# Altium integrated library Analog Devices Interface and Isolation Digital Isolators.IntLib: 645 symbols (part 23 of 36)
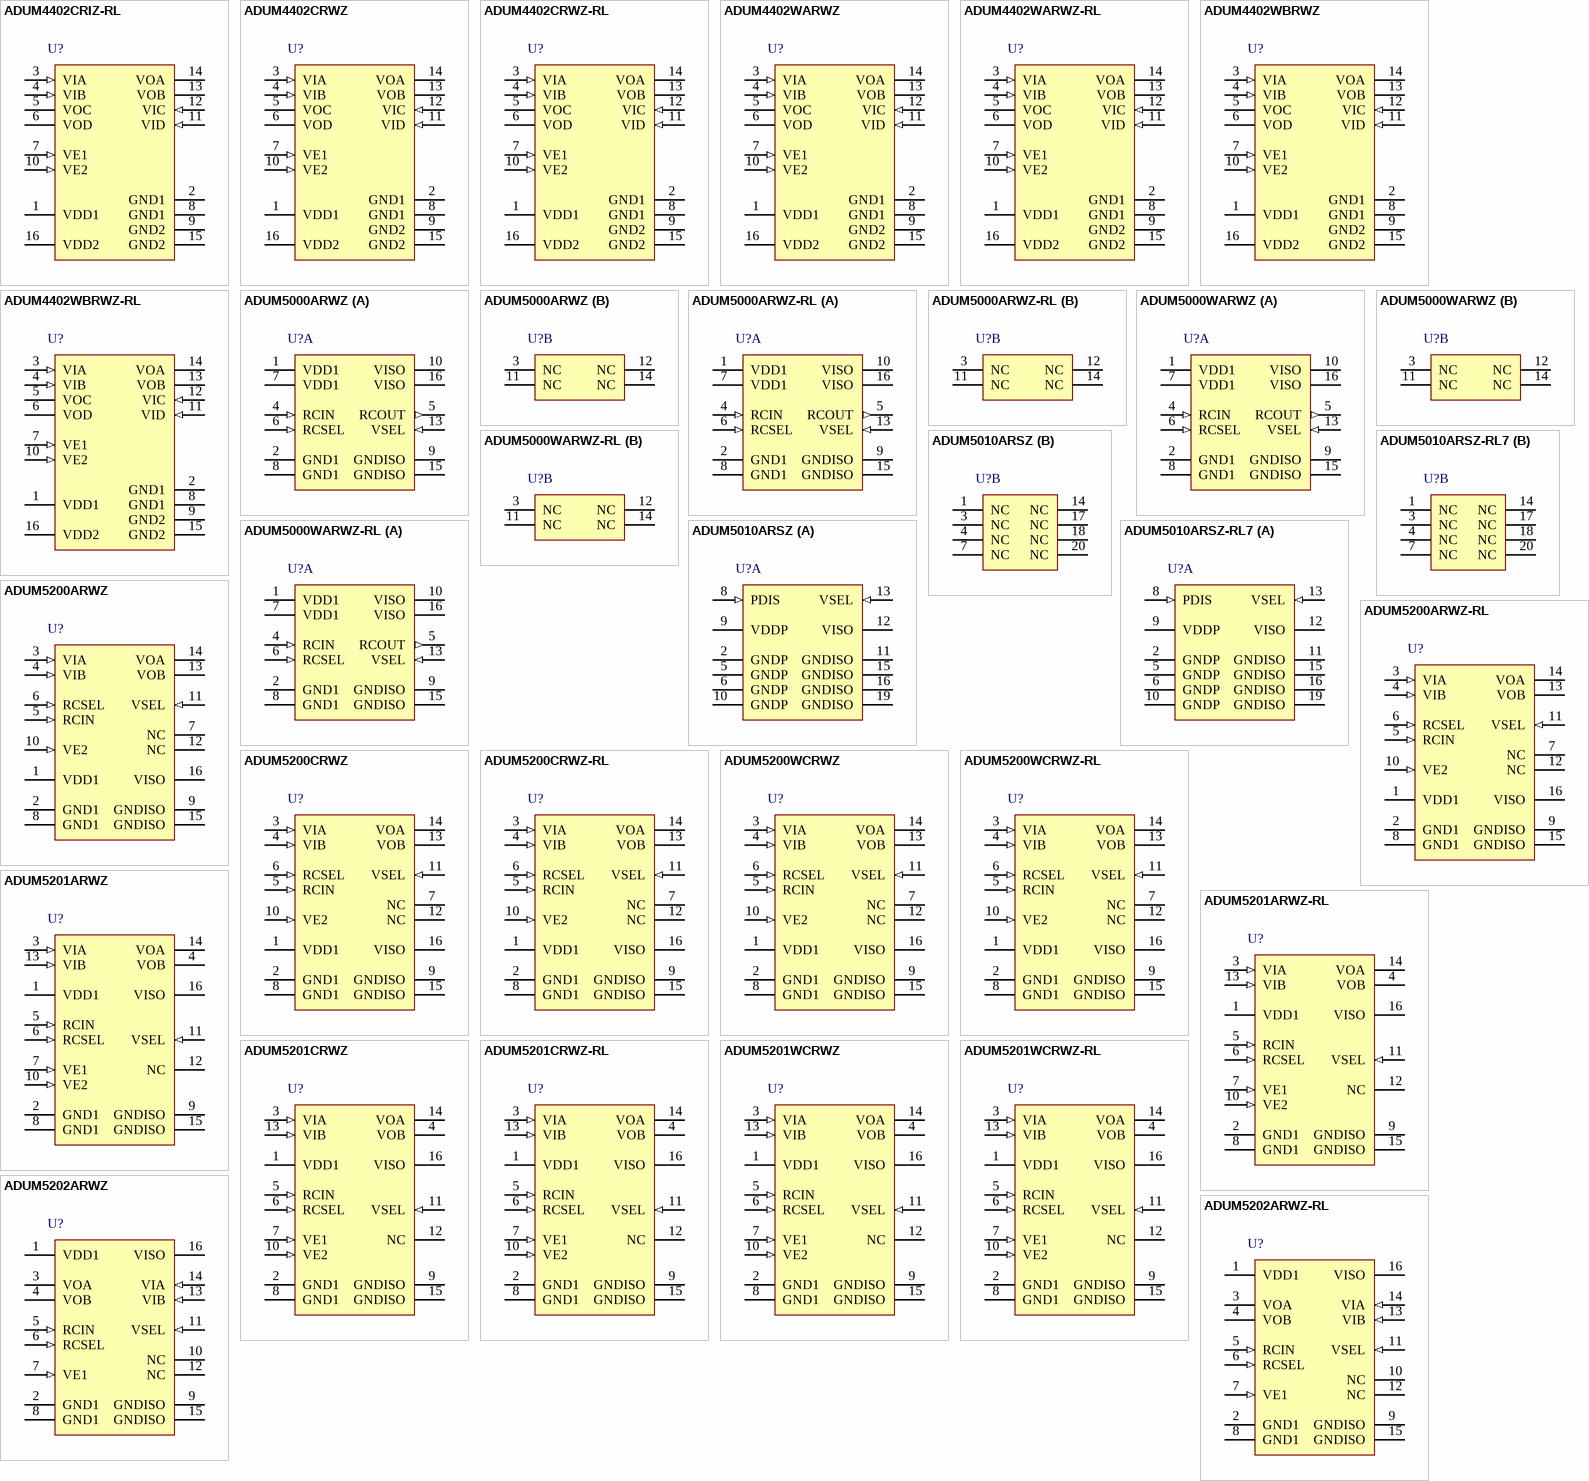
[diagram p42: symbols ADUM4402CRIZ-RL to ADUM5202ARWZ-RL]

## ADUM5010ARSZ
designator U?
Isolated DC / DC Converter, 2.5 KV rms Insulation Rating, Industrial, 20-pin SOP (RS-20), Tube; Manufacturer: Analog Devices; PartNumber: ADUM5010ARSZ; Insulation Rating (kVrms): 2.5; DatasheetVersion: Rev. 0; PackageVersion: Mar-03; PackageReference: RS-20; PackageDescription: 20-Pin Shrink Small Outline Package, Body 7.2 x 5.3 mm, Pitch 0.65 mm; Supplier 1: Digi-Key; Supplier Part Number 1: ADUM5010ARSZ-ND; Max Operating Temp (degreesC): 105; Mounting Technology: Surface Mount; Code_JEDEC: MO-150AE; ComponentLink1Description: Manufacturer URL; ComponentLink1URL: http://www.analog.com/en/index.html; ComponentLink2Description: Datasheet; ComponentLink2URL: http://www.analog.com/static/imported-files/data_sheets/ADuM5010.pdf; ComponentLink3Description: Package Specification; ComponentLink3URL: http://www.analog.com/static/imported-files/packages/318405805657546556503576154334802686596RS_20.pdf
footprint ADI-RS-20_N (SOP, 20-Leads, Body 7.2x5.3mm, Pitch 0.65mm, IPC Medium Density)
footprint ADI-RS-20_L (SOP, 20-Leads, Body 7.2x5.3mm, Pitch 0.65mm, IPC High Density)
footprint ADI-RS-20_M (SOP, 20-Leads, Body 7.2x5.3mm, Pitch 0.65mm, IPC Low Density)
part A pins: 2 GNDP (power) "Ground 1. Ground reference for isolator primary. Pin 2 and Pin 10 are internally connected, and it is recommended that all pins be connected to a common ground.", 5 GNDP (power) "Ground 1. Ground reference for isolator primary. Pin 2 and Pin 10 are internally connected, and it is recommended that all pins be connected to a common ground.", 6 GNDP (power) "Ground 1. Ground reference for isolator primary. Pin 2 and Pin 10 are internally connected, and it is recommended that all pins be connected to a common ground.", 8 PDIS (in) "Power Disable. When this pin is tied to GNDP the power converter is active; when a logic high voltage is applied, the power supply enters a low power standby mode.", 9 VDDP (power) "Primary Supply Voltage, 3.0 V to 5.5 V.", 10 GNDP (power) "Ground 1. Ground reference for isolator primary. Pin 2 and Pin 10 are internally connected, and it is recommended that all pins be connected to a common ground.", 11 GNDISO (power) "Ground Reference for Isolator Side 2. Pin 19 and Pin 11 are internally connected, and it is recommended that all pins be connected to a common ground.", 12 VISO (power) "Secondary Supply Voltage Output for External Loads, 3.15 V to 5.5 V depending on voltage divider connected to VSEL.", 13 VSEL (in) "Output Voltage select input. A voltage divider attached to this pin between VISO and GNDISO determines the value of VISO, see Equation 1.", 15 GNDISO (power) "Ground Reference for Isolator Side 2. Pin 19 and Pin 11 are internally connected, and it is recommended that all pins be connected to a common ground.", 16 GNDISO (power) "Ground Reference for Isolator Side 2. Pin 19 and Pin 11 are internally connected, and it is recommended that all pins be connected to a common ground.", 19 GNDISO (power) "Ground Reference for Isolator Side 2. Pin 19 and Pin 11 are internally connected, and it is recommended that all pins be connected to a common ground."
part B pins: 1 NC "This pin is not connected internally.", 3 NC "This pin is not connected internally", 4 NC "This pin is not connected internally", 7 NC "This pin is not connected internally", 14 NC "This pin is not connected internally", 17 NC "This pin is not connected internally", 18 NC "This pin is not connected internally", 20 NC "This pin is not connected internally"

## ADUM5010ARSZ-RL7
designator U?
Isolated DC / DC Converter, 2.5 KV rms Insulation Rating, Industrial, 20-pin SOP (RS-20), Reel; Manufacturer: Analog Devices; PartNumber: ADUM5010ARSZ-RL7; Insulation Rating (kVrms): 2.5; DatasheetVersion: Rev. 0; PackageVersion: Mar-03; PackageReference: RS-20; PackageDescription: 20-Pin Shrink Small Outline Package, Body 7.2 x 5.3 mm, Pitch 0.65 mm; Supplier 1: Digi-Key; Supplier Part Number 1: ADUM5010ARSZ-RL7TR-ND; Max Operating Temp (degreesC): 105; Mounting Technology: Surface Mount; Code_JEDEC: MO-150AE; ComponentLink1Description: Manufacturer URL; ComponentLink1URL: http://www.analog.com/en/index.html; ComponentLink2Description: Datasheet; ComponentLink2URL: http://www.analog.com/static/imported-files/data_sheets/ADuM5010.pdf; ComponentLink3Description: Package Specification; ComponentLink3URL: http://www.analog.com/static/imported-files/packages/318405805657546556503576154334802686596RS_20.pdf
footprint ADI-RS-20_N (SOP, 20-Leads, Body 7.2x5.3mm, Pitch 0.65mm, IPC Medium Density)
footprint ADI-RS-20_L (SOP, 20-Leads, Body 7.2x5.3mm, Pitch 0.65mm, IPC High Density)
footprint ADI-RS-20_M (SOP, 20-Leads, Body 7.2x5.3mm, Pitch 0.65mm, IPC Low Density)
part A pins: 2 GNDP (power) "Ground 1. Ground reference for isolator primary. Pin 2 and Pin 10 are internally connected, and it is recommended that all pins be connected to a common ground.", 5 GNDP (power) "Ground 1. Ground reference for isolator primary. Pin 2 and Pin 10 are internally connected, and it is recommended that all pins be connected to a common ground.", 6 GNDP (power) "Ground 1. Ground reference for isolator primary. Pin 2 and Pin 10 are internally connected, and it is recommended that all pins be connected to a common ground.", 8 PDIS (in) "Power Disable. When this pin is tied to GNDP the power converter is active; when a logic high voltage is applied, the power supply enters a low power standby mode.", 9 VDDP (power) "Primary Supply Voltage, 3.0 V to 5.5 V.", 10 GNDP (power) "Ground 1. Ground reference for isolator primary. Pin 2 and Pin 10 are internally connected, and it is recommended that all pins be connected to a common ground.", 11 GNDISO (power) "Ground Reference for Isolator Side 2. Pin 19 and Pin 11 are internally connected, and it is recommended that all pins be connected to a common ground.", 12 VISO (power) "Secondary Supply Voltage Output for External Loads, 3.15 V to 5.5 V depending on voltage divider connected to VSEL.", 13 VSEL (in) "Output Voltage select input. A voltage divider attached to this pin between VISO and GNDISO determines the value of VISO, see Equation 1.", 15 GNDISO (power) "Ground Reference for Isolator Side 2. Pin 19 and Pin 11 are internally connected, and it is recommended that all pins be connected to a common ground.", 16 GNDISO (power) "Ground Reference for Isolator Side 2. Pin 19 and Pin 11 are internally connected, and it is recommended that all pins be connected to a common ground.", 19 GNDISO (power) "Ground Reference for Isolator Side 2. Pin 19 and Pin 11 are internally connected, and it is recommended that all pins be connected to a common ground."
part B pins: 1 NC "This pin is not connected internally.", 3 NC "This pin is not connected internally", 4 NC "This pin is not connected internally", 7 NC "This pin is not connected internally", 14 NC "This pin is not connected internally", 17 NC "This pin is not connected internally", 18 NC "This pin is not connected internally", 20 NC "This pin is not connected internally"

## ADUM5200ARWZ
designator U?
Dual Channel Isolator with Integrated DC / DC Converter, 2.5 KV rms Insulation Rating, 1 Mbps Data Rate, 100 ns Delay, Industrial, 16-pin SOIC (RW-16), Tube; Manufacturer: Analog Devices; PartNumber: ADUM5200ARWZ; Insulation Rating (kVrms): 2.5; Max Data Rate: 1Mbps; Prop Delay: 100ns; DatasheetVersion: Rev. B; PackageVersion: 032707-B, 03/2007; PackageReference: RW-16; PackageDescription: 16-Pin Standard Small Outline Package, Body 10.3 x 7.5 mm, Pitch 1.27 mm; Supplier 1: Digi-Key; Supplier Part Number 1: ADUM5200ARWZ-ND; Max Operating Temp (degreesC): 105; Mounting Technology: Surface Mount; Code_JEDEC: MS-013-AA; ComponentLink1Description: Manufacturer URL; ComponentLink1URL: http://www.analog.com/en/index.html; ComponentLink2Description: Datasheet; ComponentLink2URL: http://www.analog.com/static/imported-files/data_sheets/ADuM5200_5201_5202.pdf; ComponentLink3Description: Package Specification; ComponentLink3URL: http://www.analog.com/static/imported-files/packages/PKG_PDF/SOIC_WIDE%20%28RW%29/RW_16.pdf
footprint ADI-RW-16_N (SOIC, 16-Leads, Body 10.3x7.5mm, Pitch 1.27mm, IPC Medium Density)
footprint ADI-RW-16_L (SOIC, 16-Leads, Body 10.3x7.5mm, Pitch 1.27mm, IPC High Density)
footprint ADI-RW-16_M (SOIC, 16-Leads, Body 10.3x7.5mm, Pitch 1.27mm, IPC Low Density)
pins: 1 VDD1 (power) "Primary Supply Voltage, 3.0 V to 5.5 V.", 2 GND1 (power) "Ground Reference for the Primary Side of the Isolator. Pin 2 and Pin 8 are internally connected to each other, and it is recommended that both pins be connected to a common ground.", 3 VIA (in) "Logic Input A.", 4 VIB (in) "Logic Input B.", 5 RCIN (in) "Regulation Control Input. This pin must be connected to the RCOUT pin of a master isoPower device or tied low. This pin must not be tied high if RCSEL is low; this combination causes excessive voltage on the secondary side (See Datasheet)", 6 RCSEL (in) "Control Input. Determines self-regulation mode (RCSEL high) or slave mode (RCSEL low), allowing external regulation. This pin is weakly pulled to the high state. In noisy environments, tie this pin either high or low.", 7 NC "No Internal Connection.", 8 GND1 (power) "Ground Reference for the Primary Side of the Isolator. Pin 2 and Pin 8 are internally connected to each other, and it is recommended that both pins be connected to a common ground.", 9 GNDISO (power) "Ground Reference for the Secondary Side of the Isolator. Pin 9 and Pin 15 are internally connected to each other, and it is recommended that both pins be connected to a common ground.", 10 VE2 (in) "Data Enable Input. When this pin is high or not connected, the secondary outputs are active; when this pin is low, the outputs are in a high-Z state.", 11 VSEL (in) "Output Voltage Selection. When VSEL = VISO, the VISO setpoint is 5.0 V. When VSEL = GNDISO, the VISO setpoint is 3.3 V. In slave regulation mode, this pin has no function.", 12 NC "No Internal Connection.", 13 VOB (hiz) "Logic Output B.", 14 VOA (hiz) "Logic Output A.", 15 GNDISO (power) "Ground Reference for the Secondary Side of the Isolator. Pin 9 and Pin 15 are internally connected to each other, and it is recommended that both pins be connected to a common ground.", 16 VISO (power) "Secondary Supply Voltage. Output for secondary side isolated data channels and external loads."

## ADUM5200ARWZ-RL
designator U?
Dual Channel Isolator with Integrated DC / DC Converter, 2.5 KV rms Insulation Rating, 1 Mbps Data Rate, 100 ns Delay, Industrial, 16-pin SOIC (RW-16), Reel; Manufacturer: Analog Devices; PartNumber: ADUM5200ARWZ-RL; Insulation Rating (kVrms): 2.5; Max Data Rate: 1Mbps; Prop Delay: 100ns; DatasheetVersion: Rev. B; PackageVersion: 032707-B, 03/2007; PackageReference: RW-16; PackageDescription: 16-Pin Standard Small Outline Package, Body 10.3 x 7.5 mm, Pitch 1.27 mm; Supplier 1: Digi-Key; Supplier Part Number 1: ADUM5200ARWZ-RL-ND; Max Operating Temp (degreesC): 105; Mounting Technology: Surface Mount; Code_JEDEC: MS-013-AA; ComponentLink1Description: Manufacturer URL; ComponentLink1URL: http://www.analog.com/en/index.html; ComponentLink2Description: Datasheet; ComponentLink2URL: http://www.analog.com/static/imported-files/data_sheets/ADuM5200_5201_5202.pdf; ComponentLink3Description: Package Specification; ComponentLink3URL: http://www.analog.com/static/imported-files/packages/PKG_PDF/SOIC_WIDE%20%28RW%29/RW_16.pdf
footprint ADI-RW-16_N (SOIC, 16-Leads, Body 10.3x7.5mm, Pitch 1.27mm, IPC Medium Density)
footprint ADI-RW-16_L (SOIC, 16-Leads, Body 10.3x7.5mm, Pitch 1.27mm, IPC High Density)
footprint ADI-RW-16_M (SOIC, 16-Leads, Body 10.3x7.5mm, Pitch 1.27mm, IPC Low Density)
pins: 1 VDD1 (power) "Primary Supply Voltage, 3.0 V to 5.5 V.", 2 GND1 (power) "Ground Reference for the Primary Side of the Isolator. Pin 2 and Pin 8 are internally connected to each other, and it is recommended that both pins be connected to a common ground.", 3 VIA (in) "Logic Input A.", 4 VIB (in) "Logic Input B.", 5 RCIN (in) "Regulation Control Input. This pin must be connected to the RCOUT pin of a master isoPower device or tied low. This pin must not be tied high if RCSEL is low; this combination causes excessive voltage on the secondary side (See Datasheet)", 6 RCSEL (in) "Control Input. Determines self-regulation mode (RCSEL high) or slave mode (RCSEL low), allowing external regulation. This pin is weakly pulled to the high state. In noisy environments, tie this pin either high or low.", 7 NC "No Internal Connection.", 8 GND1 (power) "Ground Reference for the Primary Side of the Isolator. Pin 2 and Pin 8 are internally connected to each other, and it is recommended that both pins be connected to a common ground.", 9 GNDISO (power) "Ground Reference for the Secondary Side of the Isolator. Pin 9 and Pin 15 are internally connected to each other, and it is recommended that both pins be connected to a common ground.", 10 VE2 (in) "Data Enable Input. When this pin is high or not connected, the secondary outputs are active; when this pin is low, the outputs are in a high-Z state.", 11 VSEL (in) "Output Voltage Selection. When VSEL = VISO, the VISO setpoint is 5.0 V. When VSEL = GNDISO, the VISO setpoint is 3.3 V. In slave regulation mode, this pin has no function.", 12 NC "No Internal Connection.", 13 VOB (hiz) "Logic Output B.", 14 VOA (hiz) "Logic Output A.", 15 GNDISO (power) "Ground Reference for the Secondary Side of the Isolator. Pin 9 and Pin 15 are internally connected to each other, and it is recommended that both pins be connected to a common ground.", 16 VISO (power) "Secondary Supply Voltage. Output for secondary side isolated data channels and external loads."

## ADUM5200CRWZ
designator U?
Dual Channel Isolator with Integrated DC / DC Converter, 2.5 KV rms Insulation Rating, 25 Mbps Data Rate, 70 ns Delay, Industrial, 16-pin SOIC (RW-16), Tube; Manufacturer: Analog Devices; PartNumber: ADUM5200CRWZ; Insulation Rating (kVrms): 2.5; Max Data Rate: 25Mbps; Prop Delay: 70ns; DatasheetVersion: Rev. B; PackageVersion: 032707-B, 03/2007; PackageReference: RW-16; PackageDescription: 16-Pin Standard Small Outline Package, Body 10.3 x 7.5 mm, Pitch 1.27 mm; Supplier 1: Digi-Key; Supplier Part Number 1: ADUM5200CRWZ-ND; Max Operating Temp (degreesC): 105; Mounting Technology: Surface Mount; Code_JEDEC: MS-013-AA; ComponentLink1Description: Manufacturer URL; ComponentLink1URL: http://www.analog.com/en/index.html; ComponentLink2Description: Datasheet; ComponentLink2URL: http://www.analog.com/static/imported-files/data_sheets/ADuM5200_5201_5202.pdf; ComponentLink3Description: Package Specification; ComponentLink3URL: http://www.analog.com/static/imported-files/packages/PKG_PDF/SOIC_WIDE%20%28RW%29/RW_16.pdf
footprint ADI-RW-16_N (SOIC, 16-Leads, Body 10.3x7.5mm, Pitch 1.27mm, IPC Medium Density)
footprint ADI-RW-16_L (SOIC, 16-Leads, Body 10.3x7.5mm, Pitch 1.27mm, IPC High Density)
footprint ADI-RW-16_M (SOIC, 16-Leads, Body 10.3x7.5mm, Pitch 1.27mm, IPC Low Density)
pins: 1 VDD1 (power) "Primary Supply Voltage, 3.0 V to 5.5 V.", 2 GND1 (power) "Ground Reference for the Primary Side of the Isolator. Pin 2 and Pin 8 are internally connected to each other, and it is recommended that both pins be connected to a common ground.", 3 VIA (in) "Logic Input A.", 4 VIB (in) "Logic Input B.", 5 RCIN (in) "Regulation Control Input. This pin must be connected to the RCOUT pin of a master isoPower device or tied low. This pin must not be tied high if RCSEL is low; this combination causes excessive voltage on the secondary side (See Datasheet)", 6 RCSEL (in) "Control Input. Determines self-regulation mode (RCSEL high) or slave mode (RCSEL low), allowing external regulation. This pin is weakly pulled to the high state. In noisy environments, tie this pin either high or low.", 7 NC "No Internal Connection.", 8 GND1 (power) "Ground Reference for the Primary Side of the Isolator. Pin 2 and Pin 8 are internally connected to each other, and it is recommended that both pins be connected to a common ground.", 9 GNDISO (power) "Ground Reference for the Secondary Side of the Isolator. Pin 9 and Pin 15 are internally connected to each other, and it is recommended that both pins be connected to a common ground.", 10 VE2 (in) "Data Enable Input. When this pin is high or not connected, the secondary outputs are active; when this pin is low, the outputs are in a high-Z state.", 11 VSEL (in) "Output Voltage Selection. When VSEL = VISO, the VISO setpoint is 5.0 V. When VSEL = GNDISO, the VISO setpoint is 3.3 V. In slave regulation mode, this pin has no function.", 12 NC "No Internal Connection.", 13 VOB (hiz) "Logic Output B.", 14 VOA (hiz) "Logic Output A.", 15 GNDISO (power) "Ground Reference for the Secondary Side of the Isolator. Pin 9 and Pin 15 are internally connected to each other, and it is recommended that both pins be connected to a common ground.", 16 VISO (power) "Secondary Supply Voltage. Output for secondary side isolated data channels and external loads."

## ADUM5200CRWZ-RL
designator U?
Dual Channel Isolator with Integrated DC / DC Converter, 2.5 KV rms Insulation Rating, 25 Mbps Data Rate, 70 ns Delay, Industrial, 16-pin SOIC (RW-16), Reel; Manufacturer: Analog Devices; PartNumber: ADUM5200CRWZ-RL; Insulation Rating (kVrms): 2.5; Max Data Rate: 25Mbps; Prop Delay: 70ns; DatasheetVersion: Rev. B; PackageVersion: 032707-B, 03/2007; PackageReference: RW-16; PackageDescription: 16-Pin Standard Small Outline Package, Body 10.3 x 7.5 mm, Pitch 1.27 mm; Supplier 1: Digi-Key; Supplier Part Number 1: ADUM5200CRWZ-RL-ND; Max Operating Temp (degreesC): 105; Mounting Technology: Surface Mount; Code_JEDEC: MS-013-AA; ComponentLink1Description: Manufacturer URL; ComponentLink1URL: http://www.analog.com/en/index.html; ComponentLink2Description: Datasheet; ComponentLink2URL: http://www.analog.com/static/imported-files/data_sheets/ADuM5200_5201_5202.pdf; ComponentLink3Description: Package Specification; ComponentLink3URL: http://www.analog.com/static/imported-files/packages/PKG_PDF/SOIC_WIDE%20%28RW%29/RW_16.pdf
footprint ADI-RW-16_N (SOIC, 16-Leads, Body 10.3x7.5mm, Pitch 1.27mm, IPC Medium Density)
footprint ADI-RW-16_L (SOIC, 16-Leads, Body 10.3x7.5mm, Pitch 1.27mm, IPC High Density)
footprint ADI-RW-16_M (SOIC, 16-Leads, Body 10.3x7.5mm, Pitch 1.27mm, IPC Low Density)
pins: 1 VDD1 (power) "Primary Supply Voltage, 3.0 V to 5.5 V.", 2 GND1 (power) "Ground Reference for the Primary Side of the Isolator. Pin 2 and Pin 8 are internally connected to each other, and it is recommended that both pins be connected to a common ground.", 3 VIA (in) "Logic Input A.", 4 VIB (in) "Logic Input B.", 5 RCIN (in) "Regulation Control Input. This pin must be connected to the RCOUT pin of a master isoPower device or tied low. This pin must not be tied high if RCSEL is low; this combination causes excessive voltage on the secondary side (See Datasheet)", 6 RCSEL (in) "Control Input. Determines self-regulation mode (RCSEL high) or slave mode (RCSEL low), allowing external regulation. This pin is weakly pulled to the high state. In noisy environments, tie this pin either high or low.", 7 NC "No Internal Connection.", 8 GND1 (power) "Ground Reference for the Primary Side of the Isolator. Pin 2 and Pin 8 are internally connected to each other, and it is recommended that both pins be connected to a common ground.", 9 GNDISO (power) "Ground Reference for the Secondary Side of the Isolator. Pin 9 and Pin 15 are internally connected to each other, and it is recommended that both pins be connected to a common ground.", 10 VE2 (in) "Data Enable Input. When this pin is high or not connected, the secondary outputs are active; when this pin is low, the outputs are in a high-Z state.", 11 VSEL (in) "Output Voltage Selection. When VSEL = VISO, the VISO setpoint is 5.0 V. When VSEL = GNDISO, the VISO setpoint is 3.3 V. In slave regulation mode, this pin has no function.", 12 NC "No Internal Connection.", 13 VOB (hiz) "Logic Output B.", 14 VOA (hiz) "Logic Output A.", 15 GNDISO (power) "Ground Reference for the Secondary Side of the Isolator. Pin 9 and Pin 15 are internally connected to each other, and it is recommended that both pins be connected to a common ground.", 16 VISO (power) "Secondary Supply Voltage. Output for secondary side isolated data channels and external loads."

## ADUM5200WCRWZ
designator U?
Dual Channel Isolator with Integrated DC / DC Converter, 2.5 KV rms Insulation Rating, 25 Mbps Data Rate, 70 ns Delay, Industrial, 16-pin SOIC (RW-16), Tube; Manufacturer: Analog Devices; PartNumber: ADUM5200WCRWZ; Automotive Qualified: Yes; Insulation Rating (kVrms): 2.5; Max Data Rate: 25Mbps; Prop Delay: 70ns; DatasheetVersion: Rev. B; PackageVersion: 032707-B, 03/2007; PackageReference: RW-16; PackageDescription: 16-Pin Standard Small Outline Package, Body 10.3 x 7.5 mm, Pitch 1.27 mm; Supplier 1: Digi-Key; Supplier Part Number 1: ADUM5200WCRWZ-ND; Max Operating Temp (degreesC): 105; Mounting Technology: Surface Mount; Code_JEDEC: MS-013-AA; ComponentLink1Description: Manufacturer URL; ComponentLink1URL: http://www.analog.com/en/index.html; ComponentLink2Description: Datasheet; ComponentLink2URL: http://www.analog.com/static/imported-files/data_sheets/ADuM5200_5201_5202.pdf; ComponentLink3Description: Package Specification; ComponentLink3URL: http://www.analog.com/static/imported-files/packages/PKG_PDF/SOIC_WIDE%20%28RW%29/RW_16.pdf
footprint ADI-RW-16_N (SOIC, 16-Leads, Body 10.3x7.5mm, Pitch 1.27mm, IPC Medium Density)
footprint ADI-RW-16_L (SOIC, 16-Leads, Body 10.3x7.5mm, Pitch 1.27mm, IPC High Density)
footprint ADI-RW-16_M (SOIC, 16-Leads, Body 10.3x7.5mm, Pitch 1.27mm, IPC Low Density)
pins: 1 VDD1 (power) "Primary Supply Voltage, 3.0 V to 5.5 V.", 2 GND1 (power) "Ground Reference for the Primary Side of the Isolator. Pin 2 and Pin 8 are internally connected to each other, and it is recommended that both pins be connected to a common ground.", 3 VIA (in) "Logic Input A.", 4 VIB (in) "Logic Input B.", 5 RCIN (in) "Regulation Control Input. This pin must be connected to the RCOUT pin of a master isoPower device or tied low. This pin must not be tied high if RCSEL is low; this combination causes excessive voltage on the secondary side (See Datasheet)", 6 RCSEL (in) "Control Input. Determines self-regulation mode (RCSEL high) or slave mode (RCSEL low), allowing external regulation. This pin is weakly pulled to the high state. In noisy environments, tie this pin either high or low.", 7 NC "No Internal Connection.", 8 GND1 (power) "Ground Reference for the Primary Side of the Isolator. Pin 2 and Pin 8 are internally connected to each other, and it is recommended that both pins be connected to a common ground.", 9 GNDISO (power) "Ground Reference for the Secondary Side of the Isolator. Pin 9 and Pin 15 are internally connected to each other, and it is recommended that both pins be connected to a common ground.", 10 VE2 (in) "Data Enable Input. When this pin is high or not connected, the secondary outputs are active; when this pin is low, the outputs are in a high-Z state.", 11 VSEL (in) "Output Voltage Selection. When VSEL = VISO, the VISO setpoint is 5.0 V. When VSEL = GNDISO, the VISO setpoint is 3.3 V. In slave regulation mode, this pin has no function.", 12 NC "No Internal Connection.", 13 VOB (hiz) "Logic Output B.", 14 VOA (hiz) "Logic Output A.", 15 GNDISO (power) "Ground Reference for the Secondary Side of the Isolator. Pin 9 and Pin 15 are internally connected to each other, and it is recommended that both pins be connected to a common ground.", 16 VISO (power) "Secondary Supply Voltage. Output for secondary side isolated data channels and external loads."

## ADUM5200WCRWZ-RL
designator U?
Dual Channel Isolator with Integrated DC / DC Converter, 2.5 KV rms Insulation Rating, 25 Mbps Data Rate, 70 ns Delay, Industrial, 16-pin SOIC (RW-16), Reel; Manufacturer: Analog Devices; PartNumber: ADUM5200WCRWZ-RL; Automotive Qualified: Yes; Insulation Rating (kVrms): 2.5; Max Data Rate: 25Mbps; Prop Delay: 70ns; DatasheetVersion: Rev. B; PackageVersion: 032707-B, 03/2007; PackageReference: RW-16; PackageDescription: 16-Pin Standard Small Outline Package, Body 10.3 x 7.5 mm, Pitch 1.27 mm; Supplier 1: Digi-Key; Supplier Part Number 1: ADUM5200WCRWZ-RL-ND; Max Operating Temp (degreesC): 105; Mounting Technology: Surface Mount; Code_JEDEC: MS-013-AA; ComponentLink1Description: Manufacturer URL; ComponentLink1URL: http://www.analog.com/en/index.html; ComponentLink2Description: Datasheet; ComponentLink2URL: http://www.analog.com/static/imported-files/data_sheets/ADuM5200_5201_5202.pdf; ComponentLink3Description: Package Specification; ComponentLink3URL: http://www.analog.com/static/imported-files/packages/PKG_PDF/SOIC_WIDE%20%28RW%29/RW_16.pdf
footprint ADI-RW-16_N (SOIC, 16-Leads, Body 10.3x7.5mm, Pitch 1.27mm, IPC Medium Density)
footprint ADI-RW-16_L (SOIC, 16-Leads, Body 10.3x7.5mm, Pitch 1.27mm, IPC High Density)
footprint ADI-RW-16_M (SOIC, 16-Leads, Body 10.3x7.5mm, Pitch 1.27mm, IPC Low Density)
pins: 1 VDD1 (power) "Primary Supply Voltage, 3.0 V to 5.5 V.", 2 GND1 (power) "Ground Reference for the Primary Side of the Isolator. Pin 2 and Pin 8 are internally connected to each other, and it is recommended that both pins be connected to a common ground.", 3 VIA (in) "Logic Input A.", 4 VIB (in) "Logic Input B.", 5 RCIN (in) "Regulation Control Input. This pin must be connected to the RCOUT pin of a master isoPower device or tied low. This pin must not be tied high if RCSEL is low; this combination causes excessive voltage on the secondary side (See Datasheet)", 6 RCSEL (in) "Control Input. Determines self-regulation mode (RCSEL high) or slave mode (RCSEL low), allowing external regulation. This pin is weakly pulled to the high state. In noisy environments, tie this pin either high or low.", 7 NC "No Internal Connection.", 8 GND1 (power) "Ground Reference for the Primary Side of the Isolator. Pin 2 and Pin 8 are internally connected to each other, and it is recommended that both pins be connected to a common ground.", 9 GNDISO (power) "Ground Reference for the Secondary Side of the Isolator. Pin 9 and Pin 15 are internally connected to each other, and it is recommended that both pins be connected to a common ground.", 10 VE2 (in) "Data Enable Input. When this pin is high or not connected, the secondary outputs are active; when this pin is low, the outputs are in a high-Z state.", 11 VSEL (in) "Output Voltage Selection. When VSEL = VISO, the VISO setpoint is 5.0 V. When VSEL = GNDISO, the VISO setpoint is 3.3 V. In slave regulation mode, this pin has no function.", 12 NC "No Internal Connection.", 13 VOB (hiz) "Logic Output B.", 14 VOA (hiz) "Logic Output A.", 15 GNDISO (power) "Ground Reference for the Secondary Side of the Isolator. Pin 9 and Pin 15 are internally connected to each other, and it is recommended that both pins be connected to a common ground.", 16 VISO (power) "Secondary Supply Voltage. Output for secondary side isolated data channels and external loads."

## ADUM5201ARWZ
designator U?
Dual Channel Isolator with Integrated DC / DC Converter, 2.5 KV rms Insulation Rating, 1 Mbps Data Rate, 100 ns Delay, Industrial, 16-pin SOIC (RW-16), Tube; Manufacturer: Analog Devices; PartNumber: ADUM5201ARWZ; Insulation Rating (kVrms): 2.5; Max Data Rate: 1Mbps; Prop Delay: 100ns; DatasheetVersion: Rev. B; PackageVersion: 032707-B, 03/2007; PackageReference: RW-16; PackageDescription: 16-Pin Standard Small Outline Package, Body 10.3 x 7.5 mm, Pitch 1.27 mm; Supplier 1: Digi-Key; Supplier Part Number 1: ADUM5201ARWZ-ND; Max Operating Temp (degreesC): 105; Mounting Technology: Surface Mount; Code_JEDEC: MS-013-AA; ComponentLink1Description: Manufacturer URL; ComponentLink1URL: http://www.analog.com/en/index.html; ComponentLink2Description: Datasheet; ComponentLink2URL: http://www.analog.com/static/imported-files/data_sheets/ADuM5200_5201_5202.pdf; ComponentLink3Description: Package Specification; ComponentLink3URL: http://www.analog.com/static/imported-files/packages/PKG_PDF/SOIC_WIDE%20%28RW%29/RW_16.pdf
footprint ADI-RW-16_N (SOIC, 16-Leads, Body 10.3x7.5mm, Pitch 1.27mm, IPC Medium Density)
footprint ADI-RW-16_L (SOIC, 16-Leads, Body 10.3x7.5mm, Pitch 1.27mm, IPC High Density)
footprint ADI-RW-16_M (SOIC, 16-Leads, Body 10.3x7.5mm, Pitch 1.27mm, IPC Low Density)
pins: 1 VDD1 (power) "Primary Supply Voltage, 3.0 V to 5.5 V.", 2 GND1 (power) "Ground 1. Ground reference for the isolator primary side. Pin 2 and Pin 8 are internally connected to each other, and it is recommended that both pins be connected to a common ground.", 3 VIA (in) "Logic Input A.", 4 VOB (hiz) "Logic Output B.", 5 RCIN (in) "Regulation Control Input. This pin must be connected to the RCOUT pin of a master isoPower device or tied low. Note that this pin must not be tied high if RCSEL is low; this combination causes excessive voltage on the (See Datasheet)", 6 RCSEL (in) "Control Input. Determines self-regulation mode (RCSEL high) or slave mode (RCSEL low), allowing external regulation. This pin is weakly pulled to the high state. In noisy environments, tie this pin either high or low.", 7 VE1 (in) "Data Enable Input. When this pin is high or not connected, the primary output is active; when this pin is low, the output is in a high-Z state.", 8 GND1 (power) "Ground 1. Ground reference for the isolator primary side. Pin 2 and Pin 8 are internally connected to each other, and it is recommended that both pins be connected to a common ground.", 9 GNDISO (power) "Ground Reference for Isolator Side 2. Pin 9 and Pin 15 are internally connected to each other, and it is recommended that both pins be connected to a common ground.", 10 VE2 (in) "Data Enable Input. When this pin is high or not connected, the secondary outputs are active; when this pin is low, the outputs are in a high-Z state.", 11 VSEL (in) "Output Voltage Selection. When VSEL = VISO, the VISO setpoint is 5.0 V. When VSEL = GNDISO, the VISO setpoint is 3.3 V. In slave regulation mode, this pin has no function.", 12 NC "No Internal Connection.", 13 VIB (in) "Logic Input B.", 14 VOA (hiz) "Logic Output A.", 15 GNDISO (power) "Ground Reference for Isolator Side 2. Pin 9 and Pin 15 are internally connected to each other, and it is recommended that both pins be connected to a common ground.", 16 VISO (power) "Secondary Supply Voltage. Output for secondary side isolated data channels and external loads."

## ADUM5201ARWZ-RL
designator U?
Dual Channel Isolator with Integrated DC / DC Converter, 2.5 KV rms Insulation Rating, 1 Mbps Data Rate, 100 ns Delay, Industrial, 16-pin SOIC (RW-16), Reel; Manufacturer: Analog Devices; PartNumber: ADUM5201ARWZ-RL; Insulation Rating (kVrms): 2.5; Max Data Rate: 1Mbps; Prop Delay: 100ns; DatasheetVersion: Rev. B; PackageVersion: 032707-B, 03/2007; PackageReference: RW-16; PackageDescription: 16-Pin Standard Small Outline Package, Body 10.3 x 7.5 mm, Pitch 1.27 mm; Supplier 1: Digi-Key; Supplier Part Number 1: ADUM5201ARWZ-RLTR-ND; Max Operating Temp (degreesC): 105; Mounting Technology: Surface Mount; Code_JEDEC: MS-013-AA; ComponentLink1Description: Manufacturer URL; ComponentLink1URL: http://www.analog.com/en/index.html; ComponentLink2Description: Datasheet; ComponentLink2URL: http://www.analog.com/static/imported-files/data_sheets/ADuM5200_5201_5202.pdf; ComponentLink3Description: Package Specification; ComponentLink3URL: http://www.analog.com/static/imported-files/packages/PKG_PDF/SOIC_WIDE%20%28RW%29/RW_16.pdf
footprint ADI-RW-16_N (SOIC, 16-Leads, Body 10.3x7.5mm, Pitch 1.27mm, IPC Medium Density)
footprint ADI-RW-16_L (SOIC, 16-Leads, Body 10.3x7.5mm, Pitch 1.27mm, IPC High Density)
footprint ADI-RW-16_M (SOIC, 16-Leads, Body 10.3x7.5mm, Pitch 1.27mm, IPC Low Density)
pins: 1 VDD1 (power) "Primary Supply Voltage, 3.0 V to 5.5 V.", 2 GND1 (power) "Ground 1. Ground reference for the isolator primary side. Pin 2 and Pin 8 are internally connected to each other, and it is recommended that both pins be connected to a common ground.", 3 VIA (in) "Logic Input A.", 4 VOB (hiz) "Logic Output B.", 5 RCIN (in) "Regulation Control Input. This pin must be connected to the RCOUT pin of a master isoPower device or tied low. Note that this pin must not be tied high if RCSEL is low; this combination causes excessive voltage on the (See Datasheet)", 6 RCSEL (in) "Control Input. Determines self-regulation mode (RCSEL high) or slave mode (RCSEL low), allowing external regulation. This pin is weakly pulled to the high state. In noisy environments, tie this pin either high or low.", 7 VE1 (in) "Data Enable Input. When this pin is high or not connected, the primary output is active; when this pin is low, the output is in a high-Z state.", 8 GND1 (power) "Ground 1. Ground reference for the isolator primary side. Pin 2 and Pin 8 are internally connected to each other, and it is recommended that both pins be connected to a common ground.", 9 GNDISO (power) "Ground Reference for Isolator Side 2. Pin 9 and Pin 15 are internally connected to each other, and it is recommended that both pins be connected to a common ground.", 10 VE2 (in) "Data Enable Input. When this pin is high or not connected, the secondary outputs are active; when this pin is low, the outputs are in a high-Z state.", 11 VSEL (in) "Output Voltage Selection. When VSEL = VISO, the VISO setpoint is 5.0 V. When VSEL = GNDISO, the VISO setpoint is 3.3 V. In slave regulation mode, this pin has no function.", 12 NC "No Internal Connection.", 13 VIB (in) "Logic Input B.", 14 VOA (hiz) "Logic Output A.", 15 GNDISO (power) "Ground Reference for Isolator Side 2. Pin 9 and Pin 15 are internally connected to each other, and it is recommended that both pins be connected to a common ground.", 16 VISO (power) "Secondary Supply Voltage. Output for secondary side isolated data channels and external loads."

## ADUM5201CRWZ
designator U?
Dual Channel Isolator with Integrated DC / DC Converter, 2.5 KV rms Insulation Rating, 25 Mbps Data Rate, 70 ns Delay, Industrial, 16-pin SOIC (RW-16), Tube; Manufacturer: Analog Devices; PartNumber: ADUM5201CRWZ; Insulation Rating (kVrms): 2.5; Max Data Rate: 25Mbps; Prop Delay: 70ns; DatasheetVersion: Rev. B; PackageVersion: 032707-B, 03/2007; PackageReference: RW-16; PackageDescription: 16-Pin Standard Small Outline Package, Body 10.3 x 7.5 mm, Pitch 1.27 mm; Supplier 1: Digi-Key; Supplier Part Number 1: ADUM5201CRWZ-ND; Max Operating Temp (degreesC): 105; Mounting Technology: Surface Mount; Code_JEDEC: MS-013-AA; ComponentLink1Description: Manufacturer URL; ComponentLink1URL: http://www.analog.com/en/index.html; ComponentLink2Description: Datasheet; ComponentLink2URL: http://www.analog.com/static/imported-files/data_sheets/ADuM5200_5201_5202.pdf; ComponentLink3Description: Package Specification; ComponentLink3URL: http://www.analog.com/static/imported-files/packages/PKG_PDF/SOIC_WIDE%20%28RW%29/RW_16.pdf
footprint ADI-RW-16_N (SOIC, 16-Leads, Body 10.3x7.5mm, Pitch 1.27mm, IPC Medium Density)
footprint ADI-RW-16_L (SOIC, 16-Leads, Body 10.3x7.5mm, Pitch 1.27mm, IPC High Density)
footprint ADI-RW-16_M (SOIC, 16-Leads, Body 10.3x7.5mm, Pitch 1.27mm, IPC Low Density)
pins: 1 VDD1 (power) "Primary Supply Voltage, 3.0 V to 5.5 V.", 2 GND1 (power) "Ground 1. Ground reference for the isolator primary side. Pin 2 and Pin 8 are internally connected to each other, and it is recommended that both pins be connected to a common ground.", 3 VIA (in) "Logic Input A.", 4 VOB (hiz) "Logic Output B.", 5 RCIN (in) "Regulation Control Input. This pin must be connected to the RCOUT pin of a master isoPower device or tied low. Note that this pin must not be tied high if RCSEL is low; this combination causes excessive voltage on the (See Datasheet)", 6 RCSEL (in) "Control Input. Determines self-regulation mode (RCSEL high) or slave mode (RCSEL low), allowing external regulation. This pin is weakly pulled to the high state. In noisy environments, tie this pin either high or low.", 7 VE1 (in) "Data Enable Input. When this pin is high or not connected, the primary output is active; when this pin is low, the output is in a high-Z state.", 8 GND1 (power) "Ground 1. Ground reference for the isolator primary side. Pin 2 and Pin 8 are internally connected to each other, and it is recommended that both pins be connected to a common ground.", 9 GNDISO (power) "Ground Reference for Isolator Side 2. Pin 9 and Pin 15 are internally connected to each other, and it is recommended that both pins be connected to a common ground.", 10 VE2 (in) "Data Enable Input. When this pin is high or not connected, the secondary outputs are active; when this pin is low, the outputs are in a high-Z state.", 11 VSEL (in) "Output Voltage Selection. When VSEL = VISO, the VISO setpoint is 5.0 V. When VSEL = GNDISO, the VISO setpoint is 3.3 V. In slave regulation mode, this pin has no function.", 12 NC "No Internal Connection.", 13 VIB (in) "Logic Input B.", 14 VOA (hiz) "Logic Output A.", 15 GNDISO (power) "Ground Reference for Isolator Side 2. Pin 9 and Pin 15 are internally connected to each other, and it is recommended that both pins be connected to a common ground.", 16 VISO (power) "Secondary Supply Voltage. Output for secondary side isolated data channels and external loads."

## ADUM5201CRWZ-RL
designator U?
Dual Channel Isolator with Integrated DC / DC Converter, 2.5 KV rms Insulation Rating, 25 Mbps Data Rate, 70 ns Delay, Industrial, 16-pin SOIC (RW-16), Reel; Manufacturer: Analog Devices; PartNumber: ADUM5201CRWZ-RL; Insulation Rating (kVrms): 2.5; Max Data Rate: 25Mbps; Prop Delay: 70ns; DatasheetVersion: Rev. B; PackageVersion: 032707-B, 03/2007; PackageReference: RW-16; PackageDescription: 16-Pin Standard Small Outline Package, Body 10.3 x 7.5 mm, Pitch 1.27 mm; Supplier 1: Digi-Key; Supplier Part Number 1: ADUM5201CRWZ-RLTR-ND; Max Operating Temp (degreesC): 105; Mounting Technology: Surface Mount; Code_JEDEC: MS-013-AA; ComponentLink1Description: Manufacturer URL; ComponentLink1URL: http://www.analog.com/en/index.html; ComponentLink2Description: Datasheet; ComponentLink2URL: http://www.analog.com/static/imported-files/data_sheets/ADuM5200_5201_5202.pdf; ComponentLink3Description: Package Specification; ComponentLink3URL: http://www.analog.com/static/imported-files/packages/PKG_PDF/SOIC_WIDE%20%28RW%29/RW_16.pdf
footprint ADI-RW-16_N (SOIC, 16-Leads, Body 10.3x7.5mm, Pitch 1.27mm, IPC Medium Density)
footprint ADI-RW-16_L (SOIC, 16-Leads, Body 10.3x7.5mm, Pitch 1.27mm, IPC High Density)
footprint ADI-RW-16_M (SOIC, 16-Leads, Body 10.3x7.5mm, Pitch 1.27mm, IPC Low Density)
pins: 1 VDD1 (power) "Primary Supply Voltage, 3.0 V to 5.5 V.", 2 GND1 (power) "Ground 1. Ground reference for the isolator primary side. Pin 2 and Pin 8 are internally connected to each other, and it is recommended that both pins be connected to a common ground.", 3 VIA (in) "Logic Input A.", 4 VOB (hiz) "Logic Output B.", 5 RCIN (in) "Regulation Control Input. This pin must be connected to the RCOUT pin of a master isoPower device or tied low. Note that this pin must not be tied high if RCSEL is low; this combination causes excessive voltage on the (See Datasheet)", 6 RCSEL (in) "Control Input. Determines self-regulation mode (RCSEL high) or slave mode (RCSEL low), allowing external regulation. This pin is weakly pulled to the high state. In noisy environments, tie this pin either high or low.", 7 VE1 (in) "Data Enable Input. When this pin is high or not connected, the primary output is active; when this pin is low, the output is in a high-Z state.", 8 GND1 (power) "Ground 1. Ground reference for the isolator primary side. Pin 2 and Pin 8 are internally connected to each other, and it is recommended that both pins be connected to a common ground.", 9 GNDISO (power) "Ground Reference for Isolator Side 2. Pin 9 and Pin 15 are internally connected to each other, and it is recommended that both pins be connected to a common ground.", 10 VE2 (in) "Data Enable Input. When this pin is high or not connected, the secondary outputs are active; when this pin is low, the outputs are in a high-Z state.", 11 VSEL (in) "Output Voltage Selection. When VSEL = VISO, the VISO setpoint is 5.0 V. When VSEL = GNDISO, the VISO setpoint is 3.3 V. In slave regulation mode, this pin has no function.", 12 NC "No Internal Connection.", 13 VIB (in) "Logic Input B.", 14 VOA (hiz) "Logic Output A.", 15 GNDISO (power) "Ground Reference for Isolator Side 2. Pin 9 and Pin 15 are internally connected to each other, and it is recommended that both pins be connected to a common ground.", 16 VISO (power) "Secondary Supply Voltage. Output for secondary side isolated data channels and external loads."

## ADUM5201WCRWZ
designator U?
Dual Channel Isolator with Integrated DC / DC Converter, 2.5 KV rms Insulation Rating, 25 Mbps Data Rate, 70 ns Delay, Industrial, 16-pin SOIC (RW-16), Tube; Manufacturer: Analog Devices; PartNumber: ADUM5201WCRWZ; Automotive Qualified: Yes; Insulation Rating (kVrms): 2.5; Max Data Rate: 25Mbps; Prop Delay: 70ns; DatasheetVersion: Rev. B; PackageVersion: 032707-B, 03/2007; PackageReference: RW-16; PackageDescription: 16-Pin Standard Small Outline Package, Body 10.3 x 7.5 mm, Pitch 1.27 mm; Supplier 1: Digi-Key; Supplier Part Number 1: ADUM5201WCRWZ-ND; Max Operating Temp (degreesC): 105; Mounting Technology: Surface Mount; Code_JEDEC: MS-013-AA; ComponentLink1Description: Manufacturer URL; ComponentLink1URL: http://www.analog.com/en/index.html; ComponentLink2Description: Datasheet; ComponentLink2URL: http://www.analog.com/static/imported-files/data_sheets/ADuM5200_5201_5202.pdf; ComponentLink3Description: Package Specification; ComponentLink3URL: http://www.analog.com/static/imported-files/packages/PKG_PDF/SOIC_WIDE%20%28RW%29/RW_16.pdf
footprint ADI-RW-16_N (SOIC, 16-Leads, Body 10.3x7.5mm, Pitch 1.27mm, IPC Medium Density)
footprint ADI-RW-16_L (SOIC, 16-Leads, Body 10.3x7.5mm, Pitch 1.27mm, IPC High Density)
footprint ADI-RW-16_M (SOIC, 16-Leads, Body 10.3x7.5mm, Pitch 1.27mm, IPC Low Density)
pins: 1 VDD1 (power) "Primary Supply Voltage, 3.0 V to 5.5 V.", 2 GND1 (power) "Ground 1. Ground reference for the isolator primary side. Pin 2 and Pin 8 are internally connected to each other, and it is recommended that both pins be connected to a common ground.", 3 VIA (in) "Logic Input A.", 4 VOB (hiz) "Logic Output B.", 5 RCIN (in) "Regulation Control Input. This pin must be connected to the RCOUT pin of a master isoPower device or tied low. Note that this pin must not be tied high if RCSEL is low; this combination causes excessive voltage on the (See Datasheet)", 6 RCSEL (in) "Control Input. Determines self-regulation mode (RCSEL high) or slave mode (RCSEL low), allowing external regulation. This pin is weakly pulled to the high state. In noisy environments, tie this pin either high or low.", 7 VE1 (in) "Data Enable Input. When this pin is high or not connected, the primary output is active; when this pin is low, the output is in a high-Z state.", 8 GND1 (power) "Ground 1. Ground reference for the isolator primary side. Pin 2 and Pin 8 are internally connected to each other, and it is recommended that both pins be connected to a common ground.", 9 GNDISO (power) "Ground Reference for Isolator Side 2. Pin 9 and Pin 15 are internally connected to each other, and it is recommended that both pins be connected to a common ground.", 10 VE2 (in) "Data Enable Input. When this pin is high or not connected, the secondary outputs are active; when this pin is low, the outputs are in a high-Z state.", 11 VSEL (in) "Output Voltage Selection. When VSEL = VISO, the VISO setpoint is 5.0 V. When VSEL = GNDISO, the VISO setpoint is 3.3 V. In slave regulation mode, this pin has no function.", 12 NC "No Internal Connection.", 13 VIB (in) "Logic Input B.", 14 VOA (hiz) "Logic Output A.", 15 GNDISO (power) "Ground Reference for Isolator Side 2. Pin 9 and Pin 15 are internally connected to each other, and it is recommended that both pins be connected to a common ground.", 16 VISO (power) "Secondary Supply Voltage. Output for secondary side isolated data channels and external loads."

## ADUM5201WCRWZ-RL
designator U?
Dual Channel Isolator with Integrated DC / DC Converter, 2.5 KV rms Insulation Rating, 25 Mbps Data Rate, 70 ns Delay, Industrial, 16-pin SOIC (RW-16), Reel; Manufacturer: Analog Devices; PartNumber: ADUM5201WCRWZ-RL; Automotive Qualified: Yes; Insulation Rating (kVrms): 2.5; Max Data Rate: 25Mbps; Prop Delay: 70ns; DatasheetVersion: Rev. B; PackageVersion: 032707-B, 03/2007; PackageReference: RW-16; PackageDescription: 16-Pin Standard Small Outline Package, Body 10.3 x 7.5 mm, Pitch 1.27 mm; Supplier 1: Digi-Key; Supplier Part Number 1: ADUM5201WCRWZ-RL-ND; Max Operating Temp (degreesC): 105; Mounting Technology: Surface Mount; Code_JEDEC: MS-013-AA; ComponentLink1Description: Manufacturer URL; ComponentLink1URL: http://www.analog.com/en/index.html; ComponentLink2Description: Datasheet; ComponentLink2URL: http://www.analog.com/static/imported-files/data_sheets/ADuM5200_5201_5202.pdf; ComponentLink3Description: Package Specification; ComponentLink3URL: http://www.analog.com/static/imported-files/packages/PKG_PDF/SOIC_WIDE%20%28RW%29/RW_16.pdf
footprint ADI-RW-16_N (SOIC, 16-Leads, Body 10.3x7.5mm, Pitch 1.27mm, IPC Medium Density)
footprint ADI-RW-16_L (SOIC, 16-Leads, Body 10.3x7.5mm, Pitch 1.27mm, IPC High Density)
footprint ADI-RW-16_M (SOIC, 16-Leads, Body 10.3x7.5mm, Pitch 1.27mm, IPC Low Density)
pins: 1 VDD1 (power) "Primary Supply Voltage, 3.0 V to 5.5 V.", 2 GND1 (power) "Ground 1. Ground reference for the isolator primary side. Pin 2 and Pin 8 are internally connected to each other, and it is recommended that both pins be connected to a common ground.", 3 VIA (in) "Logic Input A.", 4 VOB (hiz) "Logic Output B.", 5 RCIN (in) "Regulation Control Input. This pin must be connected to the RCOUT pin of a master isoPower device or tied low. Note that this pin must not be tied high if RCSEL is low; this combination causes excessive voltage on the (See Datasheet)", 6 RCSEL (in) "Control Input. Determines self-regulation mode (RCSEL high) or slave mode (RCSEL low), allowing external regulation. This pin is weakly pulled to the high state. In noisy environments, tie this pin either high or low.", 7 VE1 (in) "Data Enable Input. When this pin is high or not connected, the primary output is active; when this pin is low, the output is in a high-Z state.", 8 GND1 (power) "Ground 1. Ground reference for the isolator primary side. Pin 2 and Pin 8 are internally connected to each other, and it is recommended that both pins be connected to a common ground.", 9 GNDISO (power) "Ground Reference for Isolator Side 2. Pin 9 and Pin 15 are internally connected to each other, and it is recommended that both pins be connected to a common ground.", 10 VE2 (in) "Data Enable Input. When this pin is high or not connected, the secondary outputs are active; when this pin is low, the outputs are in a high-Z state.", 11 VSEL (in) "Output Voltage Selection. When VSEL = VISO, the VISO setpoint is 5.0 V. When VSEL = GNDISO, the VISO setpoint is 3.3 V. In slave regulation mode, this pin has no function.", 12 NC "No Internal Connection.", 13 VIB (in) "Logic Input B.", 14 VOA (hiz) "Logic Output A.", 15 GNDISO (power) "Ground Reference for Isolator Side 2. Pin 9 and Pin 15 are internally connected to each other, and it is recommended that both pins be connected to a common ground.", 16 VISO (power) "Secondary Supply Voltage. Output for secondary side isolated data channels and external loads."